# EAGLE library part MCP16323 (library piccoli)
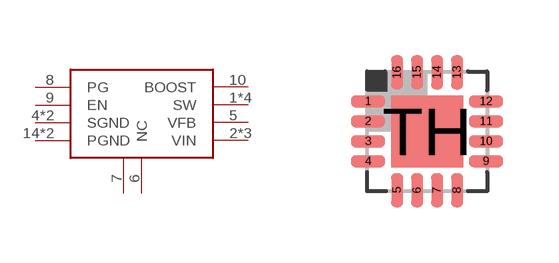
[diagram p14: symbol with the pads of QFN16; footprint QFN16]

Designator prefix -

## MCP16323  [QFN16]
1  SW
2  VIN
3  VIN
4  SGND
5  VFB
6  NC  nc
7  NC2  nc
8  PG
9  EN
10  BOOST
11  VIN
12  SW
13  SW
14  PGND
15  PGND
16  SW
TH  SGND

## Footprint QFN16 (pad centres in mm)
RTE (S-PQFP-N16) 3x3 mm Source: www.ti.com .. tpa6132a2 direct path stereo $.65.pdf
smd 0.85 x 0.3: 1 -1.475,0.75; 2 -1.475,0.25; 3 -1.475,-0.25; 4 -1.475,-0.75; 9 1.475,-0.75; 10 1.475,-0.25; 11 1.475,0.25; 12 1.475,0.75
smd 0.3 x 0.85: 5 -0.75,-1.475; 6 -0.25,-1.475; 7 0.25,-1.475; 8 0.75,-1.475; 13 0.75,1.475; 14 0.25,1.475; 15 -0.25,1.475; 16 -0.75,1.475
smd 1.8 x 1.8: TH 0,0